# EAGLE library part DRV8838_BB (library wooddy)
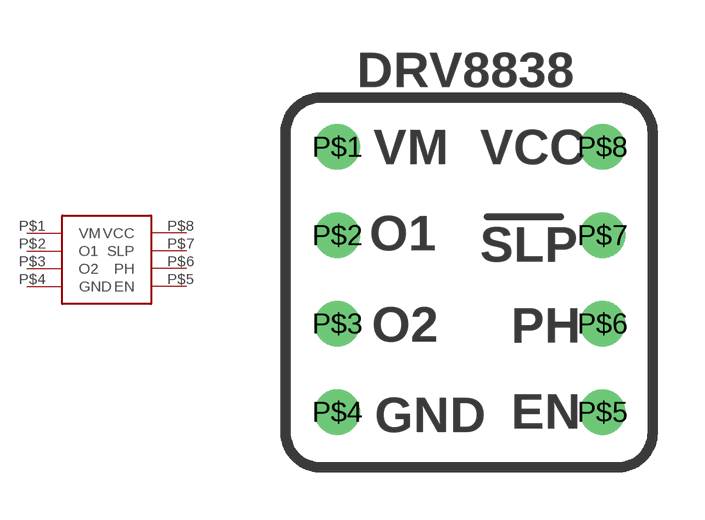
[diagram p6: symbol with the pads of DRV8838_BB; footprint DRV8838_BB]

Designator prefix -

## DRV8838_BB  [DRV8838_BB]
P$1  VM
P$2  O1
P$3  O2
P$4  GND
P$5  EN
P$6  PH
P$7  SLP
P$8  VCC

## Footprint DRV8838_BB (pad centres in mm)
drill 0.8: P$1 -3.81,3.81; P$2 -3.81,1.27; P$3 -3.81,-1.27; P$4 -3.81,-3.81; P$5 3.81,-3.81; P$6 3.81,-1.27; P$7 3.81,1.27; P$8 3.81,3.81